# EAGLE library part CAMERA_OV7670 (library video)
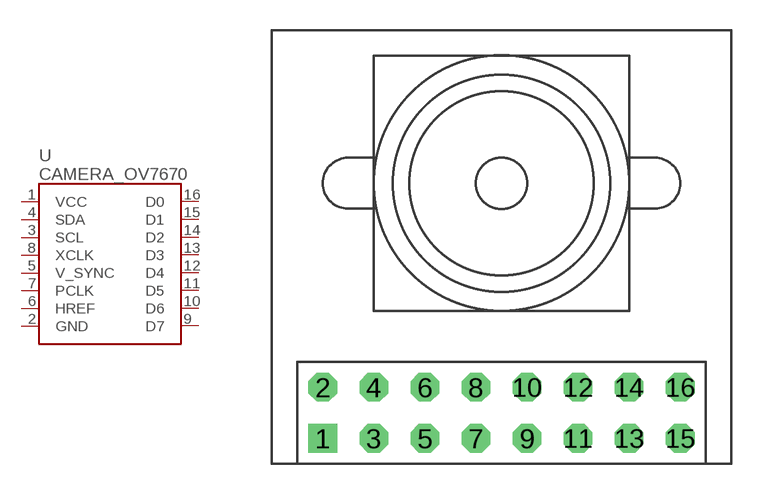
[diagram p4: symbol with the pads of CAMERA_OV7670; footprint CAMERA_OV7670]

Designator prefix -

## CAMERA_OV7670"  [CAMERA_OV7670]
1  VCC
2  GND
3  SCL
4  SDA
5  V_SYNC  out
6  HREF  out
7  PCLK  out
8  XCLK
9  D7  out
10  D6  out
11  D5  out
12  D4  out
13  D3  out
14  D2  out
15  D1  out
16  D0  out

## Footprint CAMERA_OV7670 (pad centres in mm)
drill 0.8 pad 1.422 square: 1 -8.89,-10.16
drill 0.8 pad 1.422 octagon: 2 -8.89,-7.62; 3 -6.35,-10.16; 4 -6.35,-7.62; 5 -3.81,-10.16; 6 -3.81,-7.62; 7 -1.27,-10.16; 8 -1.27,-7.62; 9 1.27,-10.16; 10 1.27,-7.62; 11 3.81,-10.16; 12 3.81,-7.62; 13 6.35,-10.16; 14 6.35,-7.62; 15 8.89,-10.16; 16 8.89,-7.62